# Altium integrated library RES 0603 1%.IntLib: 73 symbols
Pins are listed as number, name and electrical type; pins without a type are passive.

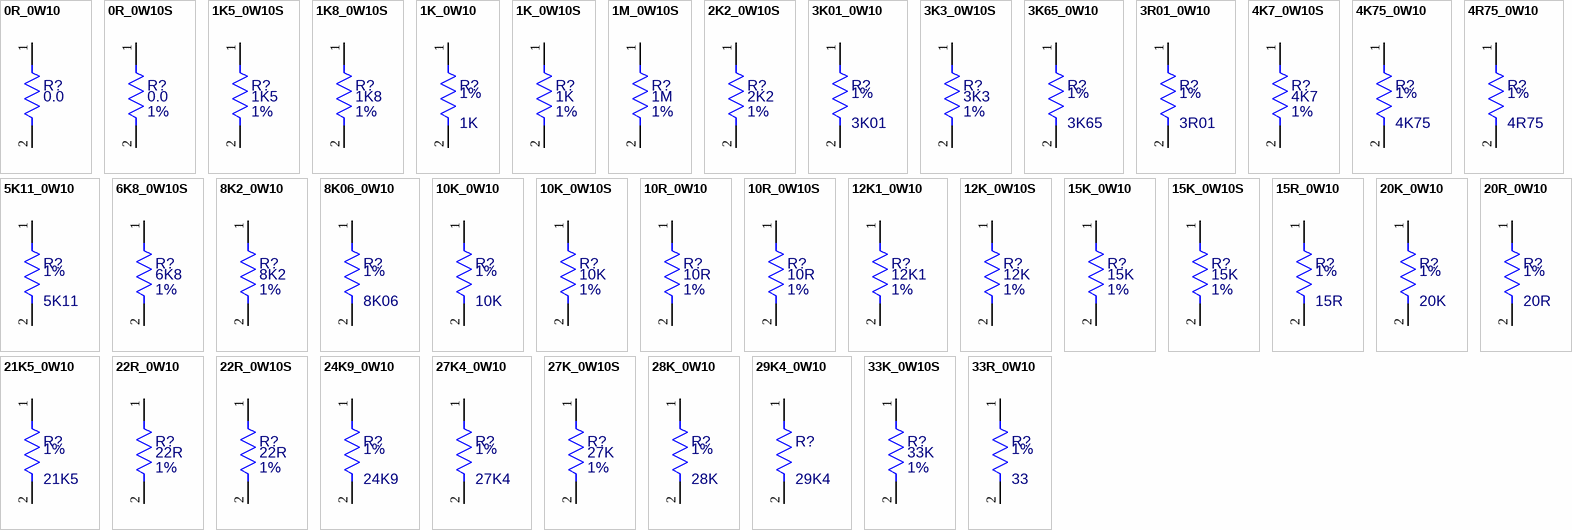
[diagram p0: symbols 0R_0W10 to 33R_0W10]

## 0R_0W10
designator R?, comment value 0.0  (hidden comment: 27452-0030)
Resistor, 0 Ohm; Power Rating: 0W10; ECAD_Revision: 1; Librarian: US; PartNumber: 27452-0030; Item: *
simulation model RESISTOR
footprint R0603
signal-integrity model Res
pins: 1, 2

## 0R_0W10S
designator R?, comment value 0.0  Tolerance: 1%  (hidden comment: RXF0K0000/FZQ)
Resistor, 0 Ohm; Power Rating: 0W10; ECAD_Revision: 1; Librarian: UK; PartNumber: RXF0K0000/FZQ; Item: *
simulation model RESISTOR
footprint R0603
signal-integrity model Res
pins: 1, 2

## 1K5_0W10S
designator R?, comment value 1K5  Tolerance: 1%  (hidden comment: RXF1K5000/FZQ)
Resistor, 1.5K; Power Rating: 0W10; ECAD_Revision: 1; Librarian: UK; PartNumber: RXF1K5000/FZQ; Item: *
simulation model RESISTOR
footprint R0603
signal-integrity model Res
pins: 1, 2

## 1K8_0W10S
designator R?, comment value 1K8  Tolerance: 1%  (hidden comment: RXF1K8000/FZQ)
Resistor, 1K8; Power Rating: 0W10; ECAD_Revision: 1; Librarian: UK; PartNumber: RXF1K8000/FZQ; Item: *
simulation model RESISTOR
footprint R0603
signal-integrity model Res
pins: 1, 2

## 1K_0W10
designator R?, comment value 1K  Tolerance: 1%  (hidden comment: 53635-2891)
Resistor, 1K; Power Rating: 0W10; ECAD_Revision: 1; Librarian: US; PartNumber: 53635-2891; Item: *
simulation model RESISTOR
footprint R0603
signal-integrity model Res
pins: 1, 2

## 1K_0W10S
designator R?, comment value 1K  Tolerance: 1%  (hidden comment: RXF1K0000/FZQ)
Resistor, 1K; Power Rating: 0W10; ECAD_Revision: 1; Librarian: UK; PartNumber: RXF1K0000/FZQ; Item: *
simulation model RESISTOR
footprint R0603
signal-integrity model Res
pins: 1, 2

## 1M_0W10S
designator R?, comment value 1M  Tolerance: 1%  (hidden comment: RXF1M0000/FZQ)
Resistor, 1M; Power Rating: 0W10; ECAD_Revision: 1; Librarian: UK; PartNumber: RXF1M0000/FZQ; Item: *
simulation model RESISTOR
footprint R0603
signal-integrity model Res
pins: 1, 2

## 2K2_0W10S
designator R?, comment value 2K2  Tolerance: 1%  (hidden comment: RXF2K2000/FZQ)
Resistor, 2.2K; Power Rating: 0W10; ECAD_Revision: 1; Librarian: UK; PartNumber: RXF2K2000/FZQ; Item: *
simulation model RESISTOR
footprint R0603
signal-integrity model Res
pins: 1, 2

## 3K01_0W10
designator R?, comment value 3K01  Tolerance: 1%  (hidden comment: 53635-3352)
Resistor, 3.01K; Power Rating: 0W10; ECAD_Revision: 1; Librarian: US; PartNumber: 53635-3352; Item: *
simulation model RESISTOR
footprint R0603
signal-integrity model Res
pins: 1, 2

## 3K3_0W10S
designator R?, comment value 3K3  Tolerance: 1%  (hidden comment: RXF3K3000/FZQ)
Resistor, 3.3K; Power Rating: 0W10; ECAD_Revision: 1; Librarian: UK; PartNumber: RXF3K3000/FZQ; Item: *
simulation model RESISTOR
footprint R0603
signal-integrity model Res
pins: 1, 2

## 3K65_0W10
designator R?, comment value 3K65  Tolerance: 1%  (hidden comment: 53635-3436)
Resistor, 3.65K; Power Rating: 0W10; ECAD_Revision: 1; Librarian: US; PartNumber: 53635-3436; Item: *
simulation model RESISTOR
footprint R0603
signal-integrity model Res
pins: 1, 2

## 3R01_0W10
designator R?, comment value 3R01  Tolerance: 1%  (hidden comment: AWT25-500094)
Resistor, 3.01 Ohm; Power Rating: 0W10; ECAD_Revision: 2; Librarian: US; PartNumber: AWT25-500094; Item: *
simulation model RESISTOR
footprint R0603
signal-integrity model Res
pins: 1, 2

## 4K7_0W10S
designator R?, comment value 4K7  Tolerance: 1%  (hidden comment: RXF4K7000/FZQ)
Resistor, 4.7K; Power Rating: 0W10; ECAD_Revision: 1; Librarian: UK; PartNumber: RXF4K7000/FZQ; Item: *
simulation model RESISTOR
footprint R0603
signal-integrity model Res
pins: 1, 2

## 4K75_0W10
designator R?, comment value 4K75  Tolerance: 1%  (hidden comment: 53635-3543)
Resistor, 4.75K; Power Rating: 0W10; ECAD_Revision: 1; Librarian: US; PartNumber: 53635-3543; Item: *
simulation model RESISTOR
footprint R0603
signal-integrity model Res
pins: 1, 2

## 4R75_0W10
designator R?, comment value 4R75  Tolerance: 1%  (hidden comment: 53635-0663)
Resistor, 4.75 Ohm; Power Rating: 0W10; ECAD_Revision: 1; Librarian: US; PartNumber: 53635-0663; Item: *
simulation model RESISTOR
footprint R0603
signal-integrity model Res
pins: 1, 2

## 5K11_0W10
designator R?, comment value 5K11  Tolerance: 1%  (hidden comment: 53635-3576)
Resistor, 5.11K; Power Rating: 0W10; ECAD_Revision: 2; Librarian: US; PartNumber: 53635-3576; Item: *
simulation model RESISTOR
footprint R0603
signal-integrity model Res
pins: 1, 2

## 6K8_0W10S
designator R?, comment value 6K8  Tolerance: 1%  (hidden comment: RXF6K8000/FZQ)
Resistor, 6.8K; Power Rating: 0W10; ECAD_Revision: 1; Librarian: UK; PartNumber: RXF6K8000/FZQ; Item: *
simulation model RESISTOR
footprint R0603
signal-integrity model Res
pins: 1, 2

## 8K2_0W10
designator R?, comment value 8K2  Tolerance: 1%  (hidden comment: RXF8K2000/FZQ)
Resistor, 8.2K; Power Rating: 0W10; ECAD_Revision: 1; Librarian: UK; PartNumber: RXF8K2000/FZQ; Item: *
simulation model RESISTOR
footprint R0603
signal-integrity model Res
pins: 1, 2

## 8K06_0W10
designator R?, comment value 8K06  Tolerance: 1%  (hidden comment: 52635-3766)
Resistor, 8.06K; Power Rating: 0W10; ECAD_Revision: 1; Librarian: US; PartNumber: 52635-3766; Item: *
simulation model RESISTOR
footprint R0603
signal-integrity model Res
pins: 1, 2

## 10K_0W10
designator R?, comment value 10K  Tolerance: 1%  (hidden comment: 53635-3857)
Resistor, 10K; Power Rating: 0W10; ECAD_Revision: 1; Librarian: US; PartNumber: 53635-3857; Item: *
simulation model RESISTOR
footprint R0603
signal-integrity model Res
pins: 1, 2

## 10K_0W10S
designator R?, comment value 10K  Tolerance: 1%  (hidden comment: RXF10K000/FZQ)
Resistor, 10K; Power Rating: 0W10; ECAD_Revision: 1; Librarian: UK; PartNumber: RXF10K000/FZQ; Item: *
simulation model RESISTOR
footprint R0603
signal-integrity model Res
pins: 1, 2

## 10R_0W10
designator R?, comment value 10R  Tolerance: 1%  (hidden comment: AWT25-000135)
Resistor, 10R; Power Rating: 0W10; ECAD_Revision: 1; Librarian: UK; PartNumber: AWT25-000135; Item: *
simulation model RESISTOR
footprint R0603
signal-integrity model Res
pins: 1, 2

## 10R_0W10S
designator R?, comment value 10R  Tolerance: 1%  (hidden comment: RXF10R000/FZQ)
DO NOT USE, INVALID PART NUMBER; Power Rating: 0W10; ECAD_Revision: 2; Librarian: UK; PartNumber: RXF10R000/FZQ; Item: *
simulation model RESISTOR
footprint R0603
signal-integrity model Res
pins: 1, 2

## 12K1_0W10
designator R?, comment value 12K1  Tolerance: 1%  (hidden comment: 53635-3931)
Resistor, 12.1K; Power Rating: 0W10; ECAD_Revision: 1; Librarian: UK; PartNumber: 53635-3931; Item: *
simulation model RESISTOR
footprint R0603
signal-integrity model Res
pins: 1, 2

## 12K_0W10S
designator R?, comment value 12K  Tolerance: 1%  (hidden comment: RXF12K000/FZQ)
Resistor, 12K; Power Rating: 0W10; ECAD_Revision: 1; Librarian: UK; PartNumber: RXF12K000/FZQ; Item: *
simulation model RESISTOR
footprint R0603
signal-integrity model Res
pins: 1, 2

## 15K_0W10
designator R?, comment value 15K  Tolerance: 1%  (hidden comment: 53635-1502)
Resistor, 15K; Power Rating: 0W10; ECAD_Revision: 1; Librarian: US; PartNumber: 53635-1502; Item: *
simulation model RESISTOR
footprint R0603
signal-integrity model Res
pins: 1, 2

## 15K_0W10S
designator R?, comment value 15K  Tolerance: 1%  (hidden comment: RXF15K000/FZQ)
Resistor, 15K; Power Rating: 0W10; ECAD_Revision: 1; Librarian: UK; PartNumber: RXF15K000/FZQ; Item: *
simulation model RESISTOR
footprint R0603
signal-integrity model Res
pins: 1, 2

## 15R_0W10
designator R?, comment value 15R  Tolerance: 1%  (hidden comment: AWT25-500095)
Resistor, 15 Ohm; Power Rating: 0W10; ECAD_Revision: 2; Librarian: US; PartNumber: AWT25-500095; Item: *
simulation model RESISTOR
footprint R0603
signal-integrity model Res
pins: 1, 2

## 20K_0W10
designator R?, comment value 20K  Tolerance: 1%  (hidden comment: 53635-4145)
Resistor, 20K; Power Rating: 0W10; ECAD_Revision: 1; Librarian: US; PartNumber: 53635-4145; Item: *
simulation model RESISTOR
footprint R0603
signal-integrity model Res
pins: 1, 2

## 20R_0W10
designator R?, comment value 20R  Tolerance: 1%  (hidden comment: 53635-1273)
Resistor, 20 Ohm; Power Rating: 0W10; ECAD_Revision: 1; Librarian: US; PartNumber: 53635-1273; Item: *
simulation model RESISTOR
footprint R0603
signal-integrity model Res
pins: 1, 2

## 21K5_0W10
designator R?, comment value 21K5  Tolerance: 1%  (hidden comment: 53635-4178)
Resistor, 21.5K; Power Rating: 0W10; ECAD_Revision: 1; Librarian: US; PartNumber: 53635-4178; Item: *
simulation model RESISTOR
footprint R0603
signal-integrity model Res
pins: 1, 2

## 22R_0W10
designator R?, comment value 22R  Tolerance: 1%  (hidden comment: AWT25-000137)
Resistor, 22R; Power Rating: 0W10; ECAD_Revision: 1; Librarian: UK; PartNumber: AWT25-000137; Item: *
simulation model RESISTOR
footprint R0603
signal-integrity model Res
pins: 1, 2

## 22R_0W10S
designator R?, comment value 22R  Tolerance: 1%  (hidden comment: RXF22R000/FZQ)
DO NOT USE, INVALID PART NUMBER; Power Rating: 0W10; ECAD_Revision: 2; Librarian: UK; PartNumber: RXF22R000/FZQ; Item: *
simulation model RESISTOR
footprint R0603
signal-integrity model Res
pins: 1, 2

## 24K9_0W10
designator R?, comment value 24K9  Tolerance: 1%  (hidden comment: 52635-4236)
Resistor, 24.9K; Power Rating: 0W10; ECAD_Revision: 1; Librarian: US; PartNumber: 52635-4236; Item: *
simulation model RESISTOR
footprint R0603
signal-integrity model Res
pins: 1, 2

## 27K4_0W10
designator R?, comment value 27K4  Tolerance: 1%  (hidden comment: AWT25-500106)
Resistor, 27.4K; Power Rating: 0W10; ECAD_Revision: 1; Librarian: US; PartNumber: AWT25-500106; Item: *
simulation model RESISTOR
footprint R0603
signal-integrity model Res
pins: 1, 2

## 27K_0W10S
designator R?, comment value 27K  Tolerance: 1%  (hidden comment: RXF27K000/FZQ)
Resistor, 27K; Power Rating: 0W10; ECAD_Revision: 1; Librarian: UK; PartNumber: RXF27K000/FZQ; Item: *
simulation model RESISTOR
footprint R0603
signal-integrity model Res
pins: 1, 2

## 28K_0W10
designator R?, comment value 28K  Tolerance: 1%  (hidden comment: 52635-4285)
Resistor, 28K; Power Rating: 0W10; ECAD_Revision: 1; Librarian: US; PartNumber: 52635-4285; Item: *
simulation model RESISTOR
footprint R0603
signal-integrity model Res
pins: 1, 2

## 29K4_0W10
designator R?, comment value 29K4  (hidden comment: AWT25-500122)
Resistor, 29.4K; Power Rating: 0W10; ECAD_Revision: 2; Librarian: US; Tolerance: 1%; PartNumber: AWT25-500122; Item: *
simulation model RESISTOR
footprint R0603
signal-integrity model Res
pins: 1, 2

## 33K_0W10S
designator R?, comment value 33K  Tolerance: 1%  (hidden comment: RXF33K000/FZQ)
Resistor, 33K; Power Rating: 0W10; ECAD_Revision: 1; Librarian: UK; PartNumber: RXF33K000/FZQ; Item: *
simulation model RESISTOR
footprint R0603
signal-integrity model Res
pins: 1, 2

## 33R_0W10
designator R?, comment value 33  Tolerance: 1%  (hidden comment: 53635-1471)
Resistor, 33 Ohm; Power Rating: 0W10; ECAD_Revision: 1; Librarian: US; PartNumber: 53635-1471; Item: *
simulation model RESISTOR
footprint R0603
signal-integrity model Res
pins: 1, 2

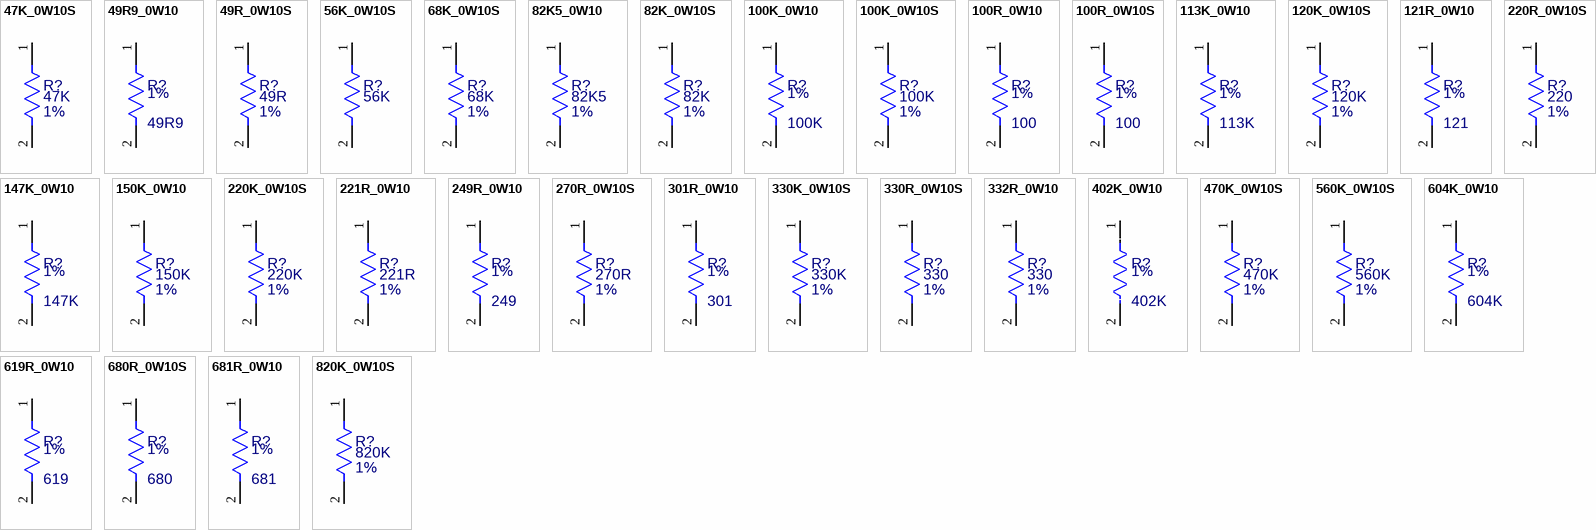
[diagram p1: symbols 47K_0W10S to 820K_0W10S]

## 47K_0W10S
designator R?, comment value 47K  Tolerance: 1%  (hidden comment: RXF47K000/FZQ)
Resistor, 47K; Power Rating: 0W10; ECAD_Revision: 1; Librarian: UK; PartNumber: RXF47K000/FZQ; Item: *
simulation model RESISTOR
footprint R0603
signal-integrity model Res
pins: 1, 2

## 49R9_0W10
designator R?, comment value 49R9  Tolerance: 1%  (hidden comment: 53635-1646)
Resistor, 49.9 Ohm; Power Rating: 0W10; ECAD_Revision: 1; Librarian: US; PartNumber: 53635-1646; Item: *
simulation model RESISTOR
footprint R0603
signal-integrity model Res
pins: 1, 2

## 49R_0W10S
designator R?, comment value 49R  Tolerance: 1%  (hidden comment: RXF49R000/FZQ)
Resistor, 49R; Power Rating: 0W10; ECAD_Revision: 1; Librarian: UK; PartNumber: RXF49R000/FZQ; Item: *
simulation model RESISTOR
footprint R0603
signal-integrity model Res
pins: 1, 2

## 56K_0W10S
designator R?, comment value 56K  (hidden comment: RXF56K000/FZQ)
Resistor, 56K; Power Rating: 0W10; ECAD_Revision: 1; Librarian: UK; Tolerance: 1%; PartNumber: RXF56K000/FZQ; Item: *
simulation model RESISTOR
footprint R0603
signal-integrity model Res
pins: 1, 2

## 68K_0W10S
designator R?, comment value 68K  Tolerance: 1%  (hidden comment: RXF68K000/FZQ)
Resistor, 68K; Power Rating: 0W10; ECAD_Revision: 1; Librarian: UK; PartNumber: RXF68K000/FZQ; Item: *
simulation model RESISTOR
footprint R0603
signal-integrity model Res
pins: 1, 2

## 82K5_0W10
designator R?, comment value 82K5  Tolerance: 1%  (hidden comment: 53635-4731)
Resistor, 82.5K; Power Rating: 0W10; ECAD_Revision: 1; Librarian: US; PartNumber: 53635-4731; Item: *
simulation model RESISTOR
footprint R0603
signal-integrity model Res
pins: 1, 2

## 82K_0W10S
designator R?, comment value 82K  Tolerance: 1%  (hidden comment: RXF82K000/FZQ)
Resistor, 82K; Power Rating: 0W10; ECAD_Revision: 1; Librarian: UK; PartNumber: RXF82K000/FZQ; Item: *
simulation model RESISTOR
footprint R0603
signal-integrity model Res
pins: 1, 2

## 100K_0W10
designator R?, comment value 100K  Tolerance: 1%  (hidden comment: 53635-4814)
Resistor, 100K; Power Rating: 0W10; ECAD_Revision: 1; Librarian: US; PartNumber: 53635-4814; Item: *
simulation model RESISTOR
footprint R0603
signal-integrity model Res
pins: 1, 2

## 100K_0W10S
designator R?, comment value 100K  Tolerance: 1%  (hidden comment: RXF100K00/FZQ)
Resistor, 100K; Power Rating: 0W10; ECAD_Revision: 1; Librarian: UK; PartNumber: RXF100K00/FZQ; Item: *
simulation model RESISTOR
footprint R0603
signal-integrity model Res
pins: 1, 2

## 100R_0W10
designator R?, comment value 100  Tolerance: 1%  (hidden comment: 53635-1935)
Resistor, 100 Ohms; Power Rating: 0W10; ECAD_Revision: 1; Librarian: US; PartNumber: 53635-1935; Item: *
simulation model RESISTOR
footprint R0603
signal-integrity model Res
pins: 1, 2

## 100R_0W10S
designator R?, comment value 100  Tolerance: 1%  (hidden comment: AWT25-000136)
Resistor, 100 Ohms; Power Rating: 0W10; ECAD_Revision: 1; Librarian: UK; PartNumber: AWT25-000136; Item: *
simulation model RESISTOR
footprint R0603
signal-integrity model Res
pins: 1, 2

## 113K_0W10
designator R?, comment value 113K  Tolerance: 1%  (hidden comment: 52635-4863)
Resistor, 113K; Power Rating: 0W10; ECAD_Revision: 1; Librarian: US; PartNumber: 52635-4863; Item: *
simulation model RESISTOR
footprint R0603
signal-integrity model Res
pins: 1, 2

## 120K_0W10S
designator R?, comment value 120K  Tolerance: 1%  (hidden comment: RXF120K00/FZQ)
Resistor, 120K; Power Rating: 0W10; ECAD_Revision: 1; Librarian: UK; PartNumber: RXF120K00/FZQ; Item: *
simulation model RESISTOR
footprint R0603
signal-integrity model Res
pins: 1, 2

## 121R_0W10
designator R?, comment value 121  Tolerance: 1%  (hidden comment: 53635-2016)
Resistor, 121 Ohm; Power Rating: 0W10; ECAD_Revision: 1; Librarian: US; PartNumber: 53635-2016; Item: *
simulation model RESISTOR
footprint R0603
signal-integrity model Res
pins: 1, 2

## 147K_0W10
designator R?, comment value 147K  Tolerance: 1%  (hidden comment: 52635-4970)
Resistor, 147K; Power Rating: 0W10; ECAD_Revision: 1; Librarian: US; PartNumber: 52635-4970; Item: *
simulation model RESISTOR
footprint R0603
signal-integrity model Res
pins: 1, 2

## 150K_0W10
designator R?, comment value 150K  Tolerance: 1%  (hidden comment: 53635-4988)
Resistor, 150K; Power Rating: 0W10; ECAD_Revision: 1; Librarian: US; PartNumber: 53635-4988; Item: *
simulation model RESISTOR
footprint R0603
signal-integrity model Res
pins: 1, 2

## 220K_0W10S
designator R?, comment value 220K  Tolerance: 1%  (hidden comment: RXF220K00/FZQ)
Resistor, 220K; Power Rating: 0W10; ECAD_Revision: 1; Librarian: UK; PartNumber: RXF220K00/FZQ; Item: *
simulation model RESISTOR
footprint R0603
signal-integrity model Res
pins: 1, 2

## 220R_0W10S
designator R?, comment value 220  Tolerance: 1%  (hidden comment: RXF220R00/FZQ)
Resistor, 220 Ohms; Power Rating: 0W10; ECAD_Revision: 1; Librarian: UK; PartNumber: RXF220R00/FZQ; Item: *
simulation model RESISTOR
footprint R0603
signal-integrity model Res
pins: 1, 2

## 221R_0W10
designator R?, comment value 221R  Tolerance: 1%  (hidden comment: 53635-2263)
Resistor, 221 Ohms; Power Rating: 0W10; ECAD_Revision: 1; Librarian: UK; PartNumber: 53635-2263; Item: *
simulation model RESISTOR
footprint R0603
signal-integrity model Res
pins: 1, 2

## 249R_0W10
designator R?, comment value 249  Tolerance: 1%  (hidden comment: 53635-2313)
Resistor, 249 Ohm; Power Rating: 0W10; ECAD_Revision: 1; Librarian: US; PartNumber: 53635-2313; Item: *
simulation model RESISTOR
footprint R0603
signal-integrity model Res
pins: 1, 2

## 270R_0W10S
designator R?, comment value 270R  Tolerance: 1%  (hidden comment: AWT25-000168)
Resistor, 270R; Power Rating: 0W10; ECAD_Revision: 1; Librarian: UK; PartNumber: AWT25-000168; Item: *
simulation model RESISTOR
footprint R0603
signal-integrity model Res
pins: 1, 2

## 301R_0W10
designator R?, comment value 301  Tolerance: 1%  (hidden comment: 53635-2396)
Resistor, 301 Ohm; Power Rating: 0W10; ECAD_Revision: 2; Librarian: US; PartNumber: 53635-2396; Item: *
simulation model RESISTOR
footprint R0603
signal-integrity model Res
pins: 1, 2

## 330K_0W10S
designator R?, comment value 330K  Tolerance: 1%  (hidden comment: RXF330K00/FZQ)
Resistor, 330K; Power Rating: 0W10; ECAD_Revision: 1; Librarian: UK; PartNumber: RXF330K00/FZQ; Item: *
simulation model RESISTOR
footprint R0603
signal-integrity model Res
pins: 1, 2

## 330R_0W10S
designator R?, comment value 330  Tolerance: 1%  (hidden comment: RXF330R00/FZQ)
Resistor, 330 Ohms; Power Rating: 0W10; ECAD_Revision: 1; Librarian: UK; PartNumber: RXF330R00/FZQ; Item: *
simulation model RESISTOR
footprint R0603
signal-integrity model Res
pins: 1, 2

## 332R_0W10
designator R?, comment value 330  Tolerance: 1%  (hidden comment: 53635-2438)
Resistor, 332 Ohms; Power Rating: 0W10; ECAD_Revision: 1; Librarian: US; PartNumber: 53635-2438; Item: *
simulation model RESISTOR
footprint R0603
signal-integrity model Res
pins: 1, 2

## 402K_0W10
designator R?, comment value 402K  Tolerance: 1%  (hidden comment: 53635-5399)
Resistor, 402K; Power Rating: 0W10; ECAD_Revision: 1; Librarian: US; PartNumber: 53635-5399; Item: *
simulation model RESISTOR
footprint R0603
signal-integrity model Res
pins: 1, 2

## 470K_0W10S
designator R?, comment value 470K  Tolerance: 1%  (hidden comment: AWT25-000167)
Resistor, 470K; Power Rating: 0W10; ECAD_Revision: 1; Librarian: UK; PartNumber: AWT25-000167; Item: *
simulation model RESISTOR
footprint R0603
signal-integrity model Res
pins: 1, 2

## 560K_0W10S
designator R?, comment value 560K  Tolerance: 1%  (hidden comment: RXF560K00/FZQ)
Resistor, 560K; Power Rating: 0W10; ECAD_Revision: 1; Librarian: UK; PartNumber: RXF560K00/FZQ; Item: *
simulation model RESISTOR
footprint R0603
signal-integrity model Res
pins: 1, 2

## 604K_0W10
designator R?, comment value 604K  Tolerance: 1%  (hidden comment: 52635-5563)
Resistor, 604K; Power Rating: 0W10; ECAD_Revision: 1; Librarian: US; PartNumber: 52635-5563; Item: *
simulation model RESISTOR
footprint R0603
signal-integrity model Res
pins: 1, 2

## 619R_0W10
designator R?, comment value 619  Tolerance: 1%  (hidden comment: 53635-2693)
Resistor, 619 Ohm; Power Rating: 0W10; ECAD_Revision: 1; Librarian: US; PartNumber: 53635-2693; Item: *
simulation model RESISTOR
footprint R0603
signal-integrity model Res
pins: 1, 2

## 680R_0W10S
designator R?, comment value 680  Tolerance: 1%  (hidden comment: RXF680R00/FZQ)
Resistor, 680 Ohm; Power Rating: 0W10; ECAD_Revision: 1; Librarian: UK; PartNumber: RXF680R00/FZQ; Item: *
simulation model RESISTOR
footprint R0603
signal-integrity model Res
pins: 1, 2

## 681R_0W10
designator R?, comment value 681  Tolerance: 1%  (hidden comment: 53635-2735)
Resistor, 681 Ohm; Power Rating: 0W10; ECAD_Revision: 1; Librarian: US; PartNumber: 53635-2735; Item: *
simulation model RESISTOR
footprint R0603
signal-integrity model Res
pins: 1, 2

## 820K_0W10S
designator R?, comment value 820K  Tolerance: 1%  (hidden comment: RXF820K00/FZQ)
Resistor, 820K; Power Rating: 0W10; ECAD_Revision: 1; Librarian: UK; PartNumber: RXF820K00/FZQ; Item: *
simulation model RESISTOR
footprint R0603
signal-integrity model Res
pins: 1, 2